# EAGLE library part MICRO-D25 (library RPi-Parts)
Molex Micro-D25 pin connector, right angle, board mount WM14799-ND
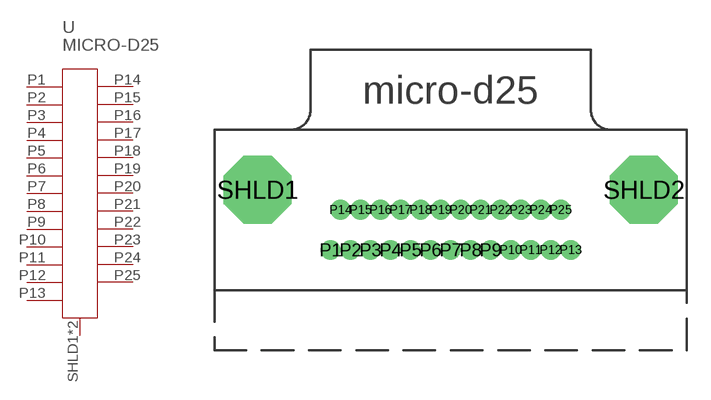
[diagram p1: symbol with the pads of MICRO-D25-RA; footprint MICRO-D25-RA]

Designator prefix -

## MICRO-D25  [MICRO-D25-RA]
P1  P1
P2  P2
P3  P3
P4  P4
P5  P5
P6  P6
P7  P7
P8  P8
P9  P9
P10  P10
P11  P11
P12  P12
P13  P13
P14  P14
P15  P15
P16  P16
P17  P17
P18  P18
P19  P19
P20  P20
P21  P21
P22  P22
P23  P23
P24  P24
P25  P25
SHLD1  SHLD
SHLD2  SHLD

## Footprint MICRO-D25-RA (pad centres in mm)
WM14799-ND
drill 0.75 pad 1.016: P1 -7.62,0; P2 -6.35,0; P3 -5.08,0; P4 -3.81,0; P5 -2.54,0; P6 -1.27,0; P7 0,0; P8 1.27,0; P9 2.54,0; P10 3.81,0; P11 5.08,0; P12 6.35,0; P13 7.62,0; P14 -6.985,2.54; P15 -5.715,2.54; P16 -4.445,2.54; P17 -3.175,2.54; P18 -1.905,2.54; P19 -0.635,2.54; P20 0.635,2.54; P21 1.905,2.54; P22 3.175,2.54; P23 4.445,2.54; P24 5.715,2.54; P25 6.985,2.54
drill 2.794 pad 4.318 octagon: SHLD1 -12.255,3.81; SHLD2 12.255,3.81